# Altium footprint library Xtal2.PcbLib: 2 footprints
Each footprint in its own frame and in the unit in brackets; x right, y up, seen from the top. Pads: shape width x height; smd on the part's side, far side on the other; paste and mask are expansions set on the pad; w line width, h text height; cw(c..) or ccw(c..) is an arc to the next point about the centre after c.
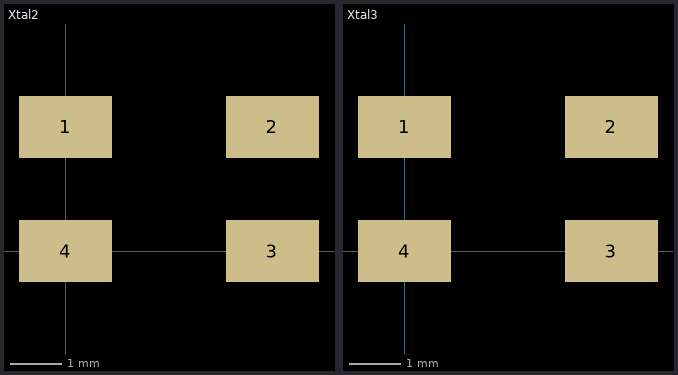
[diagram p0: the footprints below, top view; thin cyan lines are the x and y axes]

## Xtal2 [mm]
pads (4):
  rect 1.8x1.2 smd: 1(0,2.4) 2(4,2.4) 3(4,0) 4(0,0)

## Xtal3 [mm]
pads (4):
  rect 1.8x1.2 smd: 1(0,2.4) 2(4,2.4) 3(4,0) 4(0,0)